# EAGLE library part LT1630 (library ICs)
30MHz, 10V/µs, Dual Rail-to-Rail Input and Output Precision Op Amps
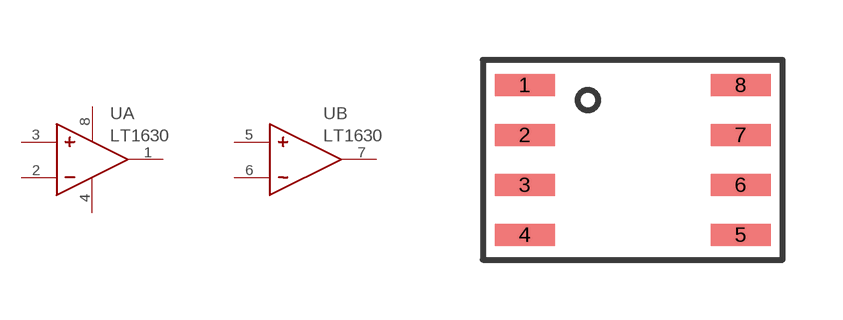
[diagram p254: symbol with the pads of SO8; footprint SO8]

Designator prefix U; gates A=OPAMP_SUPPLIES B=OPAMP_NOSUPPLIES

## LT1630CS8 (DIGIKEY: LT1630CS8#PBF-ND; HEIGHT: 2; PRICE_PER: 5.86; VALUE: LT1630)  [SO8]
1  A:OUT
2  A:-
3  A:+
4  A:V-
5  B:+
6  B:-
7  B:OUT
8  A:V+

## Footprint SO8 (pad centres in mm)
smd 1.5 x 0.55: 1 -2.7,1.875; 2 -2.7,0.625; 3 -2.7,-0.625; 4 -2.7,-1.875; 5 2.7,-1.875; 6 2.7,-0.625; 7 2.7,0.625; 8 2.7,1.875